# Altium footprint library SnapEDApcb.PcbLib: 1 footprints
Each footprint in its own frame and in the unit in brackets; x right, y up, seen from the top. Pads: shape width x height; smd on the part's side, far side on the other; paste and mask are expansions set on the pad; w line width, h text height; cw(c..) or ccw(c..) is an arc to the next point about the centre after c.
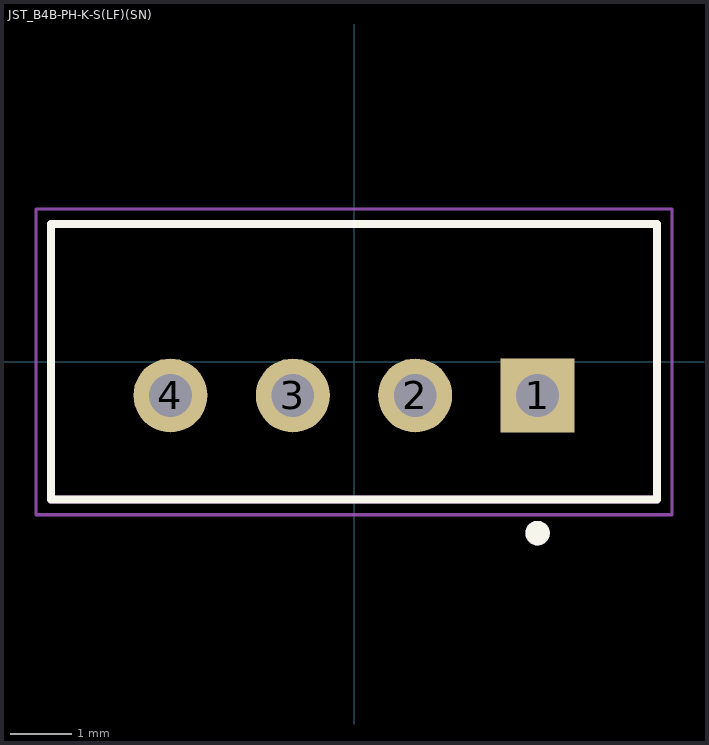
[diagram p0: the footprint, top view; thin cyan lines are the x and y axes]

## JST_B4B-PH-K-S(LF)(SN) [mm]
pads (4):
  rect 1.208x1.208 hole 0.7: 1(3,-0.55)
  round 1.208 hole 0.7: 2(1,-0.55) 3(-1,-0.55) 4(-3,-0.55)
Top Overlay:
  circle w0.2: c3,-2.8 r0.1
  lines w0.127: -4.95,-2.25 -4.95,2.25 4.95,2.25 4.95,-2.25 -4.95,-2.25
Mechanical 13:
  circle w0.2: c3,-2.8 r0.1
  lines w0.127: -4.95,-2.25 4.95,-2.25 4.95,2.25 -4.95,2.25 -4.95,-2.25
Mechanical 15:
  lines w0.05: -5.2,-2.5 5.2,-2.5 5.2,2.5 -5.2,2.5 -5.2,-2.5
3D body "User Library-b4b-ph-k-s.step": height 6, standoff -3, extent -4.95,-2.25 4.95,2.25